# Altium footprint library WSBM.PcbLib: 4 footprints
Each footprint in its own frame and in the unit in brackets; x right, y up, seen from the top. Pads: shape width x height; smd on the part's side, far side on the other; paste and mask are expansions set on the pad; w line width, h text height; cw(c..) or ccw(c..) is an arc to the next point about the centre after c.
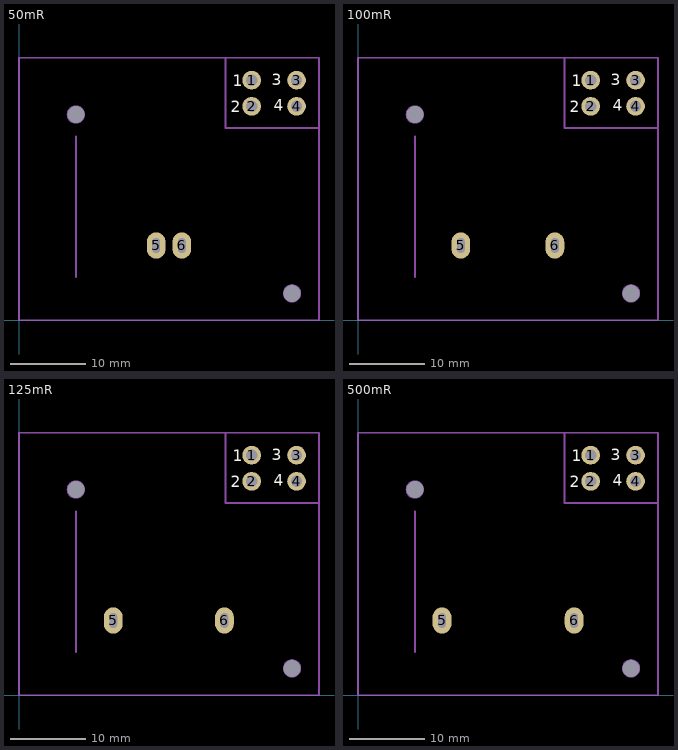
[diagram p0: the footprints below, top view; thin cyan lines are the x and y axes]

## 50mR [mm]
pads (8):
  round 2.5 hole 1.5: 1(31.1,32.1) 2(31.1,28.6) 3(37.1,32.1) 4(37.1,28.6)
  oval 2.5x3.5 hole 1 slot 2 at 90 deg: 5(18.34,10) 6(21.77,10)
  round 0 hole 2.3 unplated paste-5 mask-5: H1(7.6,27.5) H2(36.5,3.6)
Top Overlay:
  text "1" at 28.604,31.254 h1.52
  text "2" at 28.279,27.779 h1.52
  text "3" at 33.754,31.429 h1.52
  text "4" at 34.079,28.004 h1.52
Mechanical 1:
  circle w0.254: c7.6,27.5 r1.1
  circle w0.254: c36.5,3.6 r1.1
  lines w0.254: 7.6,5.8 7.6,24.6 ; 27.6,35.1 27.6,25.7 40.1,25.7 ; 0,0 0,35.1 40.1,35.1 40.1,0 0,0
  text "50mR" at 16.379,13.679 h1.52
3D body "WSBM8518_50帝.STEP": height 4.97, standoff -22.7, extent -22.448,-1.456 62.54,39.037

## 100mR [mm]
pads (8):
  round 2.5 hole 1.5: 1(31.1,32.1) 2(31.1,28.6) 3(37.1,32.1) 4(37.1,28.6)
  oval 2.5x3.5 hole 1 slot 2 at 90 deg: 5(13.75,10) 6(26.32,10)
  round 0 hole 2.3 unplated paste-5 mask-5: H1(7.6,27.5) H2(36.5,3.6)
Top Overlay:
  text "4" at 34.079,28.004 h1.52
  text "3" at 33.754,31.429 h1.52
  text "2" at 28.279,27.779 h1.52
  text "1" at 28.604,31.254 h1.52
Mechanical 1:
  circle w0.254: c36.5,3.6 r1.1
  circle w0.254: c7.6,27.5 r1.1
  lines w0.254: 7.6,5.8 7.6,24.6 ; 27.6,35.1 27.6,25.7 40.1,25.7 ; 0,0 40.1,0 40.1,35.1 0,35.1 0,0
  text "100mR" at 15.454,13.954 h1.52
3D body "WSBM8518_100帝.STEP": height 4.98, standoff -22.68, extent -22.448,-1.456 62.54,39.037

## 125mR [mm]
pads (8):
  round 2.5 hole 1.5: 1(31.1,32.1) 2(31.1,28.6) 3(37.1,32.1) 4(37.1,28.6)
  oval 2.5x3.5 hole 1 slot 2 at 90 deg: 5(12.6,10) 6(27.46,10)
  round 0 hole 2.3 unplated paste-5 mask-5: H1(7.6,27.5) H2(36.5,3.6)
Top Overlay:
  text "4" at 34.079,28.004 h1.52
  text "3" at 33.754,31.429 h1.52
  text "2" at 28.279,27.779 h1.52
  text "1" at 28.604,31.254 h1.52
Mechanical 1:
  circle w0.254: c36.5,3.6 r1.1
  circle w0.254: c7.6,27.5 r1.1
  lines w0.254: 7.6,5.8 7.6,24.6 ; 27.6,35.1 27.6,25.7 40.1,25.7 ; 0,0 40.1,0 40.1,35.1 0,35.1 0,0
  text "125mR" at 15.454,13.954 h1.52
3D body "WSBM8518_125帝.STEP": height 5.01, standoff -22.66, extent -22.448,-1.456 62.54,39.037

## 500mR [mm]
pads (8):
  round 2.5 hole 1.5: 1(31.1,32.1) 2(31.1,28.6) 3(37.1,32.1) 4(37.1,28.6)
  oval 2.5x3.5 hole 1 slot 2 at 90 deg: 5(11.23,10) 6(28.88,10)
  round 0 hole 2.3 unplated paste-5 mask-5: H1(7.6,27.5) H2(36.5,3.6)
Top Overlay:
  text "4" at 34.079,28.004 h1.52
  text "3" at 33.754,31.429 h1.52
  text "2" at 28.279,27.779 h1.52
  text "1" at 28.604,31.254 h1.52
Mechanical 1:
  circle w0.254: c36.5,3.6 r1.1
  circle w0.254: c7.6,27.5 r1.1
  lines w0.254: 7.6,5.8 7.6,24.6 ; 27.6,35.1 27.6,25.7 40.1,25.7 ; 0,0 40.1,0 40.1,35.1 0,35.1 0,0
  text "500mR" at 16.379,13.679 h1.52
3D body "WSBM8518_500帝.step": height 5.04, standoff -22.62, extent -22.444,-1.468 62.544,39.025